# Altium schematic symbol library VESC.SchLib: 4 symbols
Pins are listed as number, name and electrical type; pins without a type are passive.

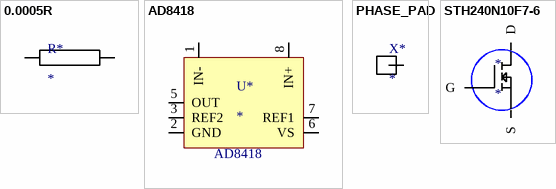
[diagram p0: symbols 0.0005R to STH240N10F7-6]

## 0.0005R
designator R*
footprint *RESC5125X80N
pins: 1, 2

## AD8418
designator U*
footprint *SOP65P490X110-8N
pins: 1 IN-, 2 GND, 3 REF2, 5 OUT, 6 VS, 7 REF1, 8 IN+

## PHASE_PAD
designator X*
footprint PHASE_PAD
pins: 1

## STH240N10F7-6
designator *
footprint *TO-263-7
pins: D, G, S